# EAGLE library part ADS805 (library ICs)
12bit, 20MSPS, parrallel output ADC.
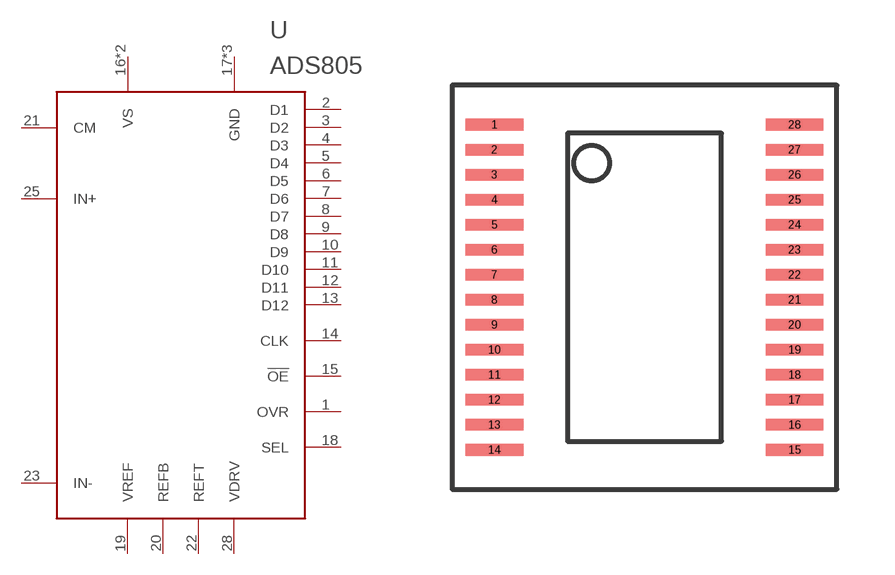
[diagram p23: symbol with the pads of SSOP28; footprint SSOP28]

Designator prefix U

## ADS805EG4 (FARNELL: 1214353)  [SSOP28]
1  OVR
2  D1
3  D2
4  D3
5  D4
6  D5
7  D6
8  D7
9  D8
10  D9
11  D10
12  D11
13  D12
14  CLK
15  !OE
16  VS
17  GND
18  SEL
19  VREF
20  REFB
21  CM
22  REFT
23  IN-
24  GND
25  IN+
26  GND
27  VS
28  VDRV

## Footprint SSOP28 (pad centres in mm)
smd 1.5 x 0.3: 1 -3.9,4.225; 2 -3.9,3.575; 3 -3.9,2.925; 4 -3.9,2.275; 5 -3.9,1.625; 6 -3.9,0.975; 7 -3.9,0.325; 8 -3.9,-0.325; 9 -3.9,-0.975; 10 -3.9,-1.625; 11 -3.9,-2.275; 12 -3.9,-2.925; 13 -3.9,-3.575; 14 -3.9,-4.225; 15 3.9,-4.225; 16 3.9,-3.575; 17 3.9,-2.925; 18 3.9,-2.275; 19 3.9,-1.625; 20 3.9,-0.975; 21 3.9,-0.325; 22 3.9,0.325; 23 3.9,0.975; 24 3.9,1.625; 25 3.9,2.275; 26 3.9,2.925; 27 3.9,3.575; 28 3.9,4.225